# Altium schematic symbol library SCH - MCU - ATMEGA - MICROCHIP ATXMEGA128B3-MCU DRQFN64.SchLib: 1 symbol
Pins are listed as number, name and electrical type; pins without a type are passive.

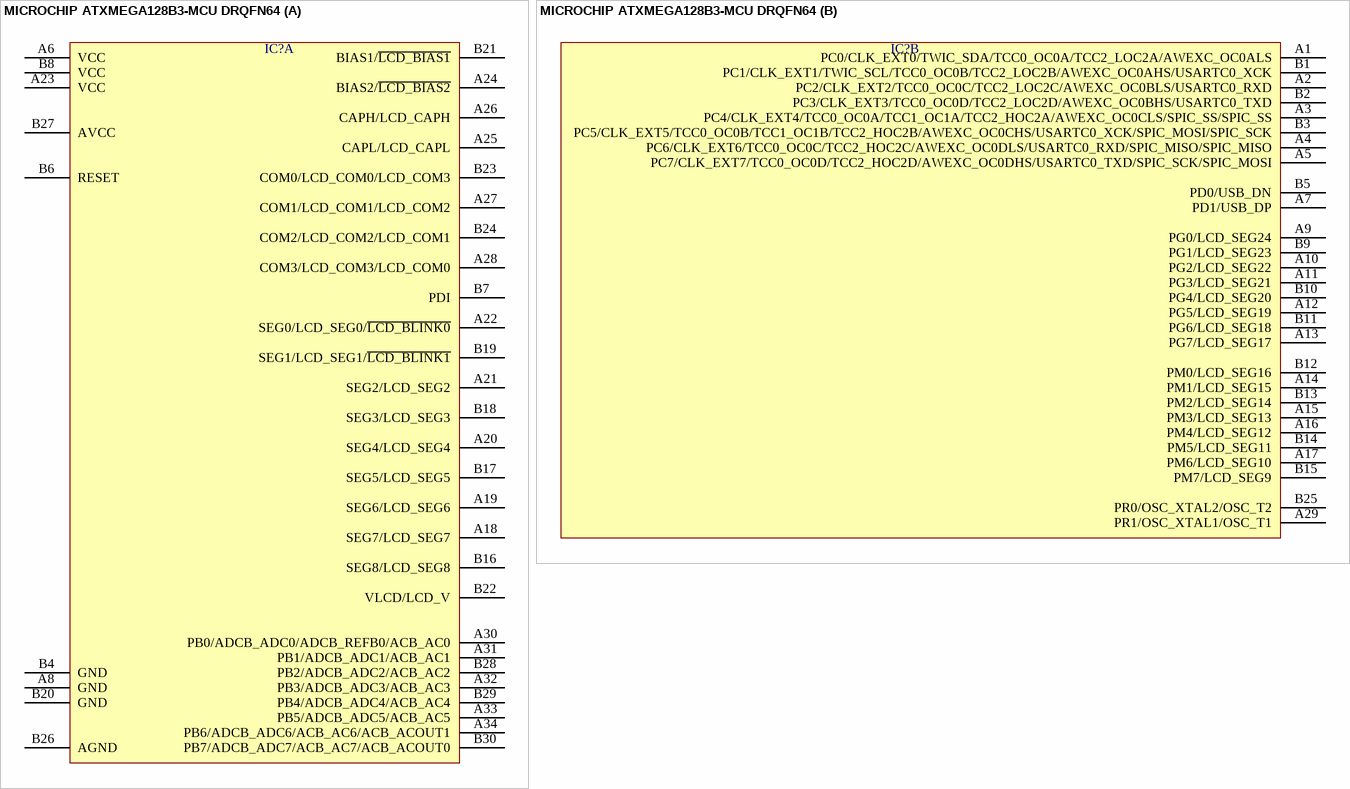
[diagram p0: symbol MICROCHIP ATXMEGA128B3-MCU DRQFN64]

## MICROCHIP ATXMEGA128B3-MCU DRQFN64
designator IC?  (value not drawn)
part A pins: A6 VCC, A8 GND, A18 SEG7/LCD_SEG7, A19 SEG6/LCD_SEG6, A20 SEG4/LCD_SEG4, A21 SEG2/LCD_SEG2, A22 SEG0/LCD_SEG0/~{LCD_BLINK0}, A23 VCC, A24 BIAS2/~{LCD_BIAS2}, A25 CAPL/LCD_CAPL, A26 CAPH/LCD_CAPH, A27 COM1/LCD_COM1/LCD_COM2, A28 COM3/LCD_COM3/LCD_COM0, A30 PB0/ADCB_ADC0/ADCB_REFB0/ACB_AC0, A31 PB1/ADCB_ADC1/ACB_AC1, A32 PB3/ADCB_ADC3/ACB_AC3, A33 PB5/ADCB_ADC5/ACB_AC5, A34 PB6/ADCB_ADC6/ACB_AC6/ACB_ACOUT1, B4 GND, B6 RESET, B7 PDI, B8 VCC, B16 SEG8/LCD_SEG8, B17 SEG5/LCD_SEG5, B18 SEG3/LCD_SEG3, B19 SEG1/LCD_SEG1/~{LCD_BLINK1}, B20 GND, B21 BIAS1/~{LCD_BIAS1}, B22 VLCD/LCD_V, B23 COM0/LCD_COM0/LCD_COM3, B24 COM2/LCD_COM2/LCD_COM1, B26 AGND, B27 AVCC, B28 PB2/ADCB_ADC2/ACB_AC2, B29 PB4/ADCB_ADC4/ACB_AC4, B30 PB7/ADCB_ADC7/ACB_AC7/ACB_ACOUT0
part B pins: A1 PC0/CLK_EXT0/TWIC_SDA/TCC0_OC0A/TCC2_LOC2A/AWEXC_OC0ALS, A2 PC2/CLK_EXT2/TCC0_OC0C/TCC2_LOC2C/AWEXC_OC0BLS/USARTC0_RXD, A3 PC4/CLK_EXT4/TCC0_OC0A/TCC1_OC1A/TCC2_HOC2A/AWEXC_OC0CLS/SPIC_SS/SPIC_SS, A4 PC6/CLK_EXT6/TCC0_OC0C/TCC2_HOC2C/AWEXC_OC0DLS/USARTC0_RXD/SPIC_MISO/SPIC_MISO, A5 PC7/CLK_EXT7/TCC0_OC0D/TCC2_HOC2D/AWEXC_OC0DHS/USARTC0_TXD/SPIC_SCK/SPIC_MOSI, A7 PD1/USB_DP, A9 PG0/LCD_SEG24, A10 PG2/LCD_SEG22, A11 PG3/LCD_SEG21, A12 PG5/LCD_SEG19, A13 PG7/LCD_SEG17, A14 PM1/LCD_SEG15, A15 PM3/LCD_SEG13, A16 PM4/LCD_SEG12, A17 PM6/LCD_SEG10, A29 PR1/OSC_XTAL1/OSC_T1, B1 PC1/CLK_EXT1/TWIC_SCL/TCC0_OC0B/TCC2_LOC2B/AWEXC_OC0AHS/USARTC0_XCK, B2 PC3/CLK_EXT3/TCC0_OC0D/TCC2_LOC2D/AWEXC_OC0BHS/USARTC0_TXD, B3 PC5/CLK_EXT5/TCC0_OC0B/TCC1_OC1B/TCC2_HOC2B/AWEXC_OC0CHS/USARTC0_XCK/SPIC_MOSI/SPIC_SCK, B5 PD0/USB_DN, B9 PG1/LCD_SEG23, B10 PG4/LCD_SEG20, B11 PG6/LCD_SEG18, B12 PM0/LCD_SEG16, B13 PM2/LCD_SEG14, B14 PM5/LCD_SEG11, B15 PM7/LCD_SEG9, B25 PR0/OSC_XTAL2/OSC_T2